# EAGLE library part TPS2115-BADPACKAGE (library Neel)
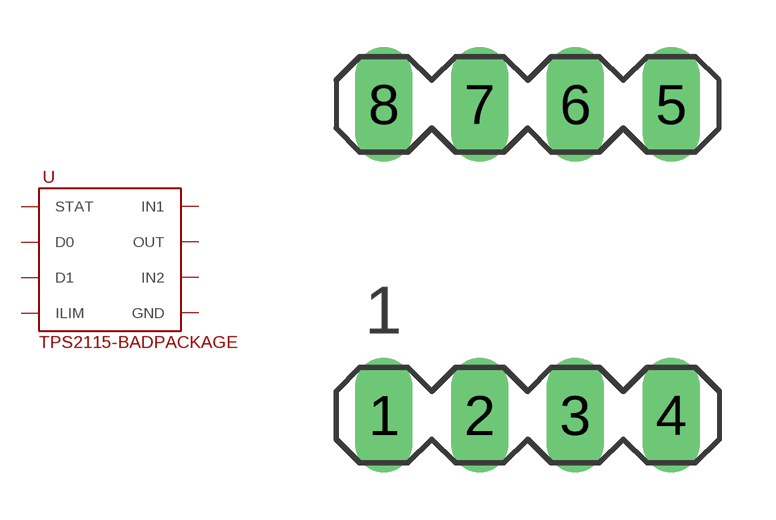
[diagram p44: symbol with the pads of DIP-8; footprint DIP-8]

Designator prefix -

## TPS2115-BADPACKAGE  [DIP-8]
1  STAT
2  D0
3  D1
4  ILIM
5  GND
6  IN2
7  OUT
8  IN1

## Footprint DIP-8 (pad centres in mm)
drill 1.016 long: 1 -3.81,-3.81; 2 -1.27,-3.81; 3 1.27,-3.81; 4 3.81,-3.81; 5 3.81,4.445; 6 1.27,4.445; 7 -1.27,4.445; 8 -3.81,4.445